# Altium footprint library Components.PcbLib: 163 footprints (part 1 of 11)
Each footprint in its own frame and in the unit in brackets; x right, y up, seen from the top. Pads: shape width x height; smd on the part's side, far side on the other; paste and mask are expansions set on the pad; w line width, h text height; cw(c..) or ccw(c..) is an arc to the next point about the centre after c.
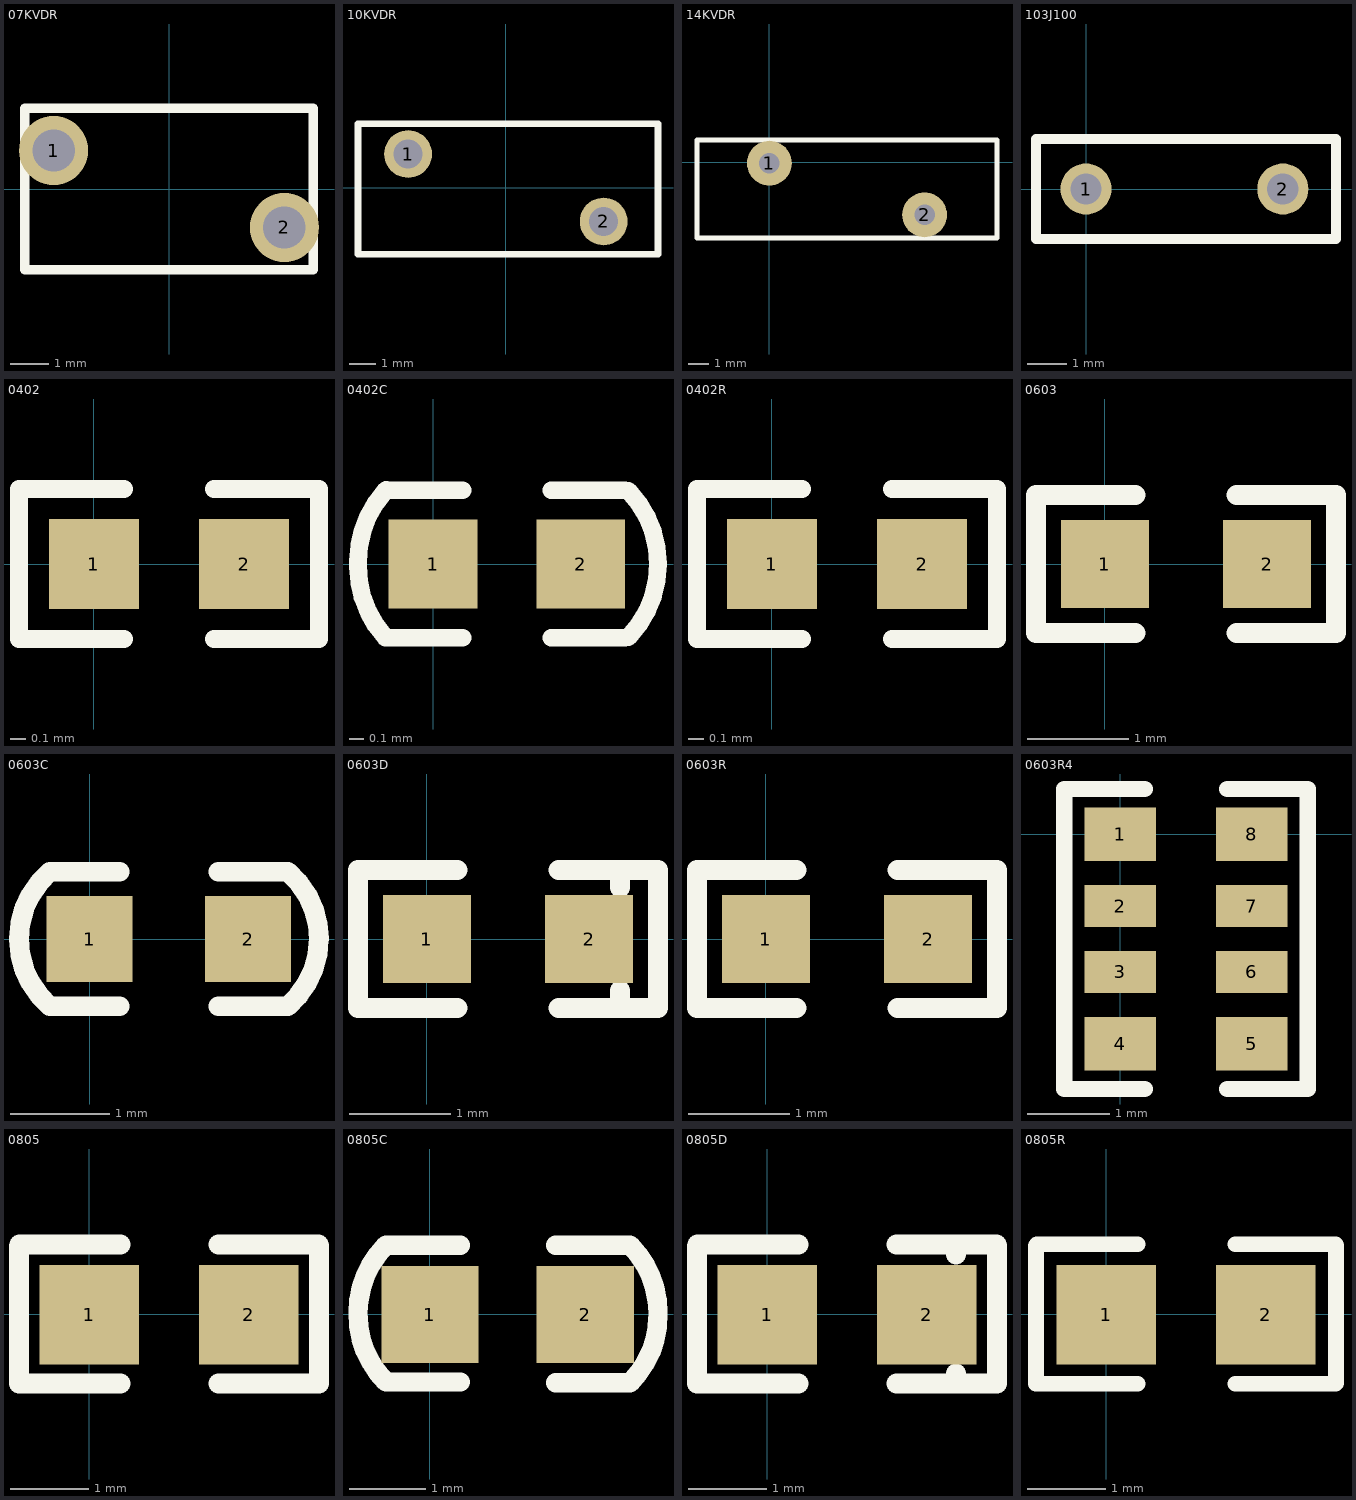
[diagram p0: the footprints below, top view; thin cyan lines are the x and y axes]

## 07KVDR [mm] "7mm rem V"
pads (2):
  round 1.8 hole 1.1: 1(-3,1) 2(3,-1)
Top Overlay:
  lines w0.254: -3.75,-2.1 -3.75,2.1 3.75,2.1 3.75,-2.1 -3.75,-2.1

## 10KVDR [mm] "10mm rem V"
pads (2):
  round 1.8 hole 1.1: 1(-3.683,1.27) 2(3.683,-1.27)
Top Overlay:
  lines w0.254: -5.572,-2.507 -5.572,2.413 5.731,2.413 5.731,-2.507 -5.572,-2.507

## 14KVDR [mm] "14mm rem V"
pads (2):
  round 2.2 hole 1: 1(0,-0.033) 2(7.62,-2.573)
Top Overlay:
  lines w0.254: -3.556,-3.716 -3.556,1.11 11.176,1.11 11.176,-3.716 -3.556,-3.716

## 103J100 [mm] "10nF 100V 5mm 7.2mm 2.3mm"
pads (2):
  round 1.3 hole 0.8: 1(0,0) 2(5,0)
Top Overlay:
  lines w0.254: -1.27,-1.27 -1.27,1.27 6.35,1.27 6.35,-1.27 -1.27,-1.27

## 0402 [mm] "1.0*0.5mm"
pads (2):
  rect 0.6x0.6 smd: 1(0,0) 2(1,0)
Top Overlay:
  lines w0.12: 0.2,-0.5 -0.5,-0.5 -0.5,0.5 0.2,0.5 ; 0.8,-0.5 1.5,-0.5 1.5,0.5 0.8,0.5

## 0402C [mm] "1.0*0.5mm"
pads (2):
  rect 0.6x0.6 smd: 1(0,0) 2(1,0)
Top Overlay:
  lines w0.12: -0.321,-0.498 cw(c0.202,-0.018) -0.508,-0.018 -0.508,0.018 cw(c0.202,0.018) -0.317,0.502 ; -0.3,-0.5 0.2,-0.5 ; -0.3,0.5 0.2,0.5 ; 0.8,-0.5 1.3,-0.5 ; 0.8,0.5 1.3,0.5 ; 1.323,-0.496 ccw(c0.809,0) 1.524,0 ccw(c0.809,0) 1.323,0.496

## 0402R [mm] "1.0*0.5mm"
pads (2):
  rect 0.6x0.6 smd: 1(0,0) 2(1,0)
Top Overlay:
  lines w0.12: 0.2,-0.5 -0.5,-0.5 -0.5,0.5 0.2,0.5 ; 0.8,-0.5 1.5,-0.5 1.5,0.5 0.8,0.5

## 0603 [mm] "1.6*0.8mm"
pads (2):
  rect 0.87x0.87 smd: 1(0,0) 2(1.6,0)
Top Overlay:
  lines w0.2: -0.68,-0.68 -0.68,0.68 ; -0.65,-0.68 0.3,-0.68 ; -0.65,0.68 0.3,0.68 ; 1.3,-0.68 2.28,-0.68 2.28,0.68 1.3,0.68

## 0603C [mm] "1.6*0.8mm"
height 0.35
pads (2):
  rect 0.87x0.87 smd: 1(0,0) 2(1.6,0)
Top Overlay:
  lines w0.2: -0.714,-0.002 ccw(c0.174,-0.002) -0.4,-0.68 0.3,-0.68 ; -0.714,0.002 cw(c0.174,0.002) -0.4,0.68 0.3,0.68 ; 1.3,-0.68 2,-0.68 ccw(c1.426,-0.002) 2.314,-0.002 ; 1.3,0.68 2,0.68 cw(c1.428,0) 2.316,0

## 0603D [mm] "1.6*0.8mm"
pads (2):
  rect 0.87x0.87 smd: 1(0,0) 2(1.6,0)
Top Overlay:
  lines w0.2: -0.68,-0.68 -0.68,0.68 ; -0.65,-0.68 0.3,-0.68 ; -0.65,0.68 0.3,0.68 ; 1.3,-0.68 2.28,-0.68 2.28,0.68 1.3,0.68 ; 1.905,-0.68 1.905,-0.508 ; 1.905,0.508 1.905,0.68

## 0603R [mm] "1.6*0.8mm"
pads (2):
  rect 0.87x0.87 smd: 1(0,0) 2(1.6,0)
Top Overlay:
  lines w0.2: -0.68,-0.68 -0.68,0.68 ; -0.65,-0.68 0.3,-0.68 ; -0.65,0.68 0.3,0.68 ; 1.3,-0.68 2.28,-0.68 2.28,0.68 1.3,0.68

## 0603R4 [mm]
pads (8):
  rect 0.87x0.65 smd: 1(0,0) 5(1.6,-2.55) 8(1.6,0)
  rect 0.87x0.508 smd: 2(0,-0.875) 3(0,-1.675) 6(1.6,-1.675) 7(1.6,-0.875)
  rect 0.875x0.65 smd: 4(0,-2.55)
Top Overlay:
  lines w0.2: 0.3,-3.1 -0.68,-3.1 -0.68,0.55 0.3,0.55 ; 1.3,-3.1 2.28,-3.1 2.28,0.55 1.3,0.55

## 0805 [mm] "2.0*1.25mm"
pads (2):
  rect 1.27x1.27 smd: 1(0.003,-0.008) 2(2.035,-0.008)
Top Overlay:
  lines w0.254: -0.897,-0.889 -0.897,0.87 ; -0.889,-0.889 0.4,-0.889 ; -0.889,0.889 0.4,0.889 ; 1.65,-0.889 2.93,-0.889 ; 1.65,0.889 2.93,0.889 ; 2.935,-0.886 2.935,0.875

## 0805C [mm] "2.0*1.25mm"
height 0.5
pads (2):
  rect 1.27x1.27 smd: 1(0.003,-0.008) 2(2.035,-0.008)
Top Overlay:
  lines w0.254: 0.4,-0.889 -0.57,-0.889 cw(c0.314,-0.005) -0.936,0.016 cw(c0.314,0.016) -0.57,0.9 0.4,0.9 ; 1.65,-0.9 2.62,-0.9 ccw(c1.736,-0.016) 2.986,0.005 ; 1.65,0.9 2.62,0.9 cw(c1.736,0.016) 2.986,0.016

## 0805D [mm] "2.0*1.25mm"
pads (2):
  rect 1.27x1.27 smd: 1(0.003,-0.008) 2(2.035,-0.008)
Top Overlay:
  lines w0.254: -0.897,-0.889 -0.897,0.87 ; -0.889,-0.889 0.4,-0.889 ; -0.889,0.889 0.4,0.889 ; 1.65,-0.889 2.93,-0.889 ; 1.65,0.889 2.93,0.889 ; 2.413,-0.889 2.413,-0.762 ; 2.413,0.762 2.413,0.889 ; 2.935,-0.886 2.935,0.875

## 0805R [mm] "2.0*1.25mm"
pads (2):
  rect 1.27x1.27 smd: 1(0.003,-0.008) 2(2.035,-0.008)
Top Overlay:
  lines w0.2: -0.897,-0.889 -0.897,0.87 ; -0.889,-0.889 0.4,-0.889 ; -0.889,0.889 0.4,0.889 ; 1.65,-0.889 2.93,-0.889 ; 1.65,0.889 2.93,0.889 ; 2.935,-0.886 2.935,0.875